# EAGLE library part CONECTOR_FONA (library Eagle_CAD_parts)
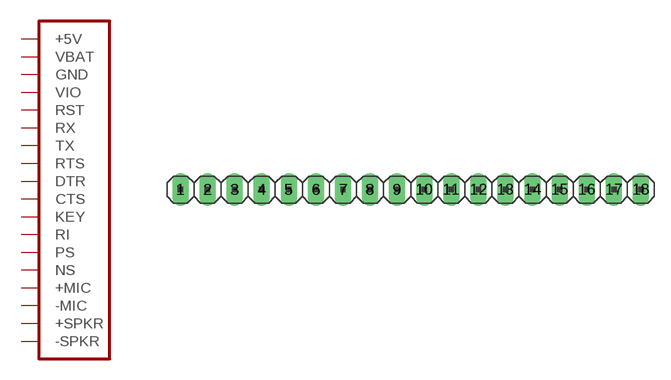
[diagram p13: symbol with the pads of 18_PINES; footprint 18_PINES]

Designator prefix -

## CONECTOR_FONA  [18_PINES]
1  +5V  pas
2  VBAT  pas
3  GND  pas
4  VIO  pas
5  RST  pas
6  RX  pas
7  TX  pas
8  RTS  pas
9  DTR  pas
10  CTS  pas
11  KEY  pas
12  RI  pas
13  PS  pas
14  NS  pas
15  +MIC  pas
16  -MIC  pas
17  +SPKR  pas
18  -SPKR  pas

## Footprint 18_PINES (pad centres in mm)
drill 1.016 long: 1 -21.59,0; 2 -19.05,0; 3 -16.51,0; 4 -13.97,0; 5 -11.43,0; 6 -8.89,0; 7 -6.35,0; 8 -3.81,0; 9 -1.27,0; 10 1.27,0; 11 3.81,0; 12 6.35,0; 13 8.89,0; 14 11.43,0; 15 13.97,0; 16 16.51,0; 17 19.05,0; 18 21.59,0